# EAGLE library part QSE-060-01 (library con-samtec-qxe)
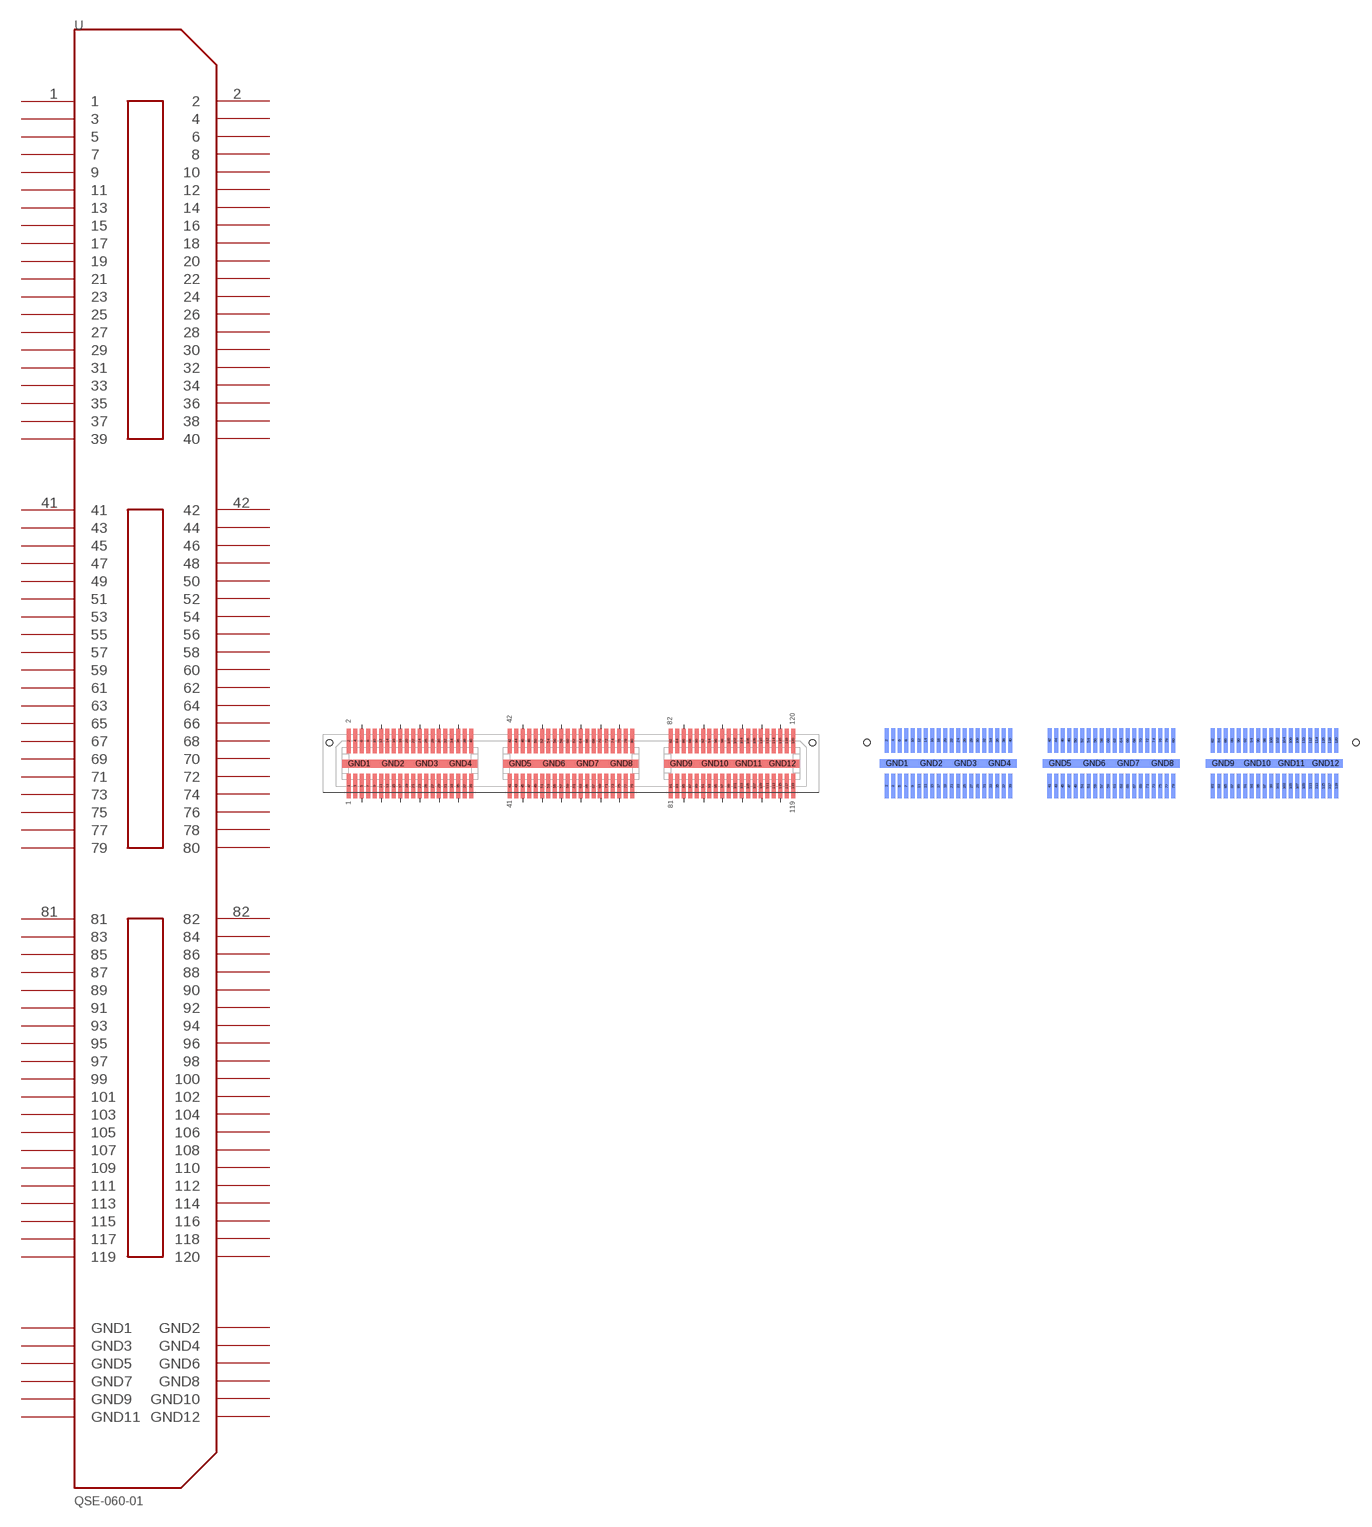
[diagram p1: symbol with the pads of QSE-060-01; footprints QSE-060-01, QSE-060-01-BOTTOM]

Designator prefix -

## QSE-060-01  [QSE-060-01]
1  1
2  2
3  3
4  4
5  5
6  6
7  7
8  8
9  9
10  10
11  11
12  12
13  13
14  14
15  15
16  16
17  17
18  18
19  19
20  20
21  21
22  22
23  23
24  24
25  25
26  26
27  27
28  28
29  29
30  30
31  31
32  32
33  33
34  34
35  35
36  36
37  37
38  38
39  39
40  40
41  41
42  42
43  43
44  44
45  45
46  46
47  47
48  48
49  49
50  50
51  51
52  52
53  53
54  54
55  55
56  56
57  57
58  58
59  59
60  60
61  61
62  62
63  63
64  64
65  65
66  66
67  67
68  68
69  69
70  70
71  71
72  72
73  73
74  74
75  75
76  76
77  77
78  78
79  79
80  80
81  81
82  82
83  83
84  84
85  85
86  86
87  87
88  88
89  89
90  90
91  91
92  92
93  93
94  94
95  95
96  96
97  97
98  98
99  99
100  100
101  101
102  102
103  103
104  104
105  105
106  106
107  107
108  108
109  109
110  110
111  111
112  112
113  113
114  114
115  115
116  116
117  117
118  118
119  119
120  120
GND1  GND1
GND2  GND2
GND3  GND3
GND4  GND4
GND5  GND5
GND6  GND6
GND7  GND7
GND8  GND8
GND9  GND9
GND10  GND10
GND11  GND11
GND12  GND12

## QSE-060-01QSE-060-01-BOTTOMSMD  [QSE-060-01-BOTTOM]
Pads as for QSE-060-01

## Footprint QSE-060-01 (pad centres in mm)
Samtec QSE-060 "female" SMD connector.
smd 0.5 x 3: 1 0.019,0; 2 0.019,5.601; 3 0.819,0; 4 0.819,5.601; 5 1.619,0; 6 1.619,5.601; 7 2.419,0; 8 2.419,5.601; 9 3.22,0; 10 3.22,5.601; 11 4.02,0; 12 4.02,5.601; 13 4.82,0; 14 4.82,5.601; 15 5.62,0; 16 5.62,5.601; 17 6.42,0; 18 6.42,5.601; 19 7.22,0; 20 7.22,5.601; 21 8.02,0; 22 8.02,5.601; 23 8.82,0; 24 8.82,5.601; 25 9.62,0; 26 9.62,5.601; 27 10.42,0; 28 10.42,5.601; 29 11.22,0; 30 11.22,5.601; 31 12.021,0; 32 12.021,5.601; 33 12.821,0; 34 12.821,5.601; 35 13.621,0; 36 13.621,5.601; 37 14.421,0; 38 14.421,5.601; 39 15.221,0; 40 15.221,5.601; 41 20.022,0; 42 20.022,5.601; 43 20.822,0; 44 20.822,5.601; 45 21.622,0; 46 21.622,5.601; 47 22.422,0; 48 22.422,5.601; 49 23.222,0; 50 23.222,5.601; 51 24.022,0; 52 24.022,5.601; 53 24.822,0; 54 24.822,5.601; 55 25.622,0; 56 25.622,5.601; 57 26.422,0; 58 26.422,5.601; 59 27.223,0; 60 27.223,5.601; 61 28.023,0; 62 28.023,5.601; 63 28.823,0; 64 28.823,5.601; 65 29.623,0; 66 29.623,5.601; 67 30.423,0; 68 30.423,5.601; 69 31.223,0; 70 31.223,5.601; 71 32.023,0; 72 32.023,5.601; 73 32.823,0; 74 32.823,5.601; 75 33.623,0; 76 33.623,5.601; 77 34.423,0; 78 34.423,5.601; 79 35.224,0; 80 35.224,5.601; 81 40.024,0; 82 40.024,5.601; 83 40.824,0; 84 40.824,5.601; 85 41.624,0; 86 41.624,5.601; 87 42.424,0; 88 42.424,5.601; 89 43.224,0; 90 43.224,5.601; 91 44.025,0; 92 44.025,5.601; 93 44.825,0; 94 44.825,5.601; 95 45.625,0; 96 45.625,5.601; 97 46.425,0; 98 46.425,5.601; 99 47.225,0; 100 47.225,5.601; 101 48.025,0; 102 48.025,5.601; 103 48.825,0; 104 48.825,5.601; 105 49.625,0; 106 49.625,5.601; 107 50.425,0; 108 50.425,5.601; 109 51.225,0; 110 51.225,5.601; 111 52.026,0; 112 52.026,5.601; 113 52.826,0; 114 52.826,5.601; 115 53.626,0; 116 53.626,5.601; 117 54.426,0; 118 54.426,5.601; 119 55.226,0; 120 55.226,5.601
smd 4.21 x 1.016: GND1 1.315,2.781; GND2 5.505,2.781; GND3 9.697,2.781; GND4 13.887,2.781; GND5 21.317,2.781; GND6 25.508,2.781; GND7 29.699,2.781; GND8 33.89,2.781; GND9 41.319,2.781; GND10 45.511,2.781; GND11 49.702,2.781; GND12 53.892,2.781
hole 0.8 at -2.381,5.372
hole 0.8 at 57.626,5.372

## Footprint QSE-060-01-BOTTOM (pad centres in mm)
smd 0.5 x 3 bottom: 1 2.407,3.2; 2 2.407,8.801; 3 3.207,3.2; 4 3.207,8.801; 5 4.007,3.2; 6 4.007,8.801; 7 4.807,3.2; 8 4.807,8.801; 9 5.607,3.2; 10 5.607,8.801; 11 6.407,3.2; 12 6.407,8.801; 13 7.207,3.2; 14 7.207,8.801; 15 8.007,3.2; 16 8.007,8.801; 17 8.807,3.2; 18 8.807,8.801; 19 9.608,3.2; 20 9.608,8.801; 21 10.408,3.2; 22 10.408,8.801; 23 11.208,3.2; 24 11.208,8.801; 25 12.008,3.2; 26 12.008,8.801; 27 12.808,3.2; 28 12.808,8.801; 29 13.608,3.2; 30 13.608,8.801; 31 14.408,3.2; 32 14.408,8.801; 33 15.208,3.2; 34 15.208,8.801; 35 16.008,3.2; 36 16.008,8.801; 37 16.808,3.2; 38 16.808,8.801; 39 17.609,3.2; 40 17.609,8.801; 41 22.403,3.2; 42 22.409,8.801; 43 23.209,3.2; 44 23.209,8.801; 45 24.009,3.2; 46 24.009,8.801; 47 24.809,3.2; 48 24.809,8.801; 49 25.61,3.2; 50 25.61,8.801; 51 26.41,3.2; 52 26.41,8.801; 53 27.21,3.2; 54 27.21,8.801; 55 28.01,3.2; 56 28.01,8.801; 57 28.81,3.2; 58 28.81,8.801; 59 29.61,3.2; 60 29.61,8.801; 61 30.41,3.2; 62 30.41,8.801; 63 31.21,3.2; 64 31.21,8.801; 65 32.01,3.2; 66 32.01,8.801; 67 32.81,3.2; 68 32.81,8.801; 69 33.611,3.2; 70 33.611,8.801; 71 34.411,3.2; 72 34.411,8.801; 73 35.211,3.2; 74 35.211,8.801; 75 36.011,3.2; 76 36.011,8.801; 77 36.811,3.2; 78 36.811,8.801; 79 37.611,3.2; 80 37.611,8.801; 81 42.412,3.2; 82 42.412,8.801; 83 43.212,3.2; 84 43.212,8.801; 85 44.012,3.2; 86 44.012,8.801; 87 44.812,3.2; 88 44.812,8.801; 89 45.612,3.2; 90 45.612,8.801; 91 46.412,3.2; 92 46.412,8.801; 93 47.212,3.2; 94 47.212,8.801; 95 48.012,3.2; 96 48.012,8.801; 97 48.812,3.2; 98 48.812,8.801; 99 49.613,3.2; 100 49.613,8.801; 101 50.413,3.2; 102 50.413,8.801; 103 51.213,3.2; 104 51.213,8.801; 105 52.013,3.2; 106 52.013,8.801; 107 52.813,3.2; 108 52.813,8.801; 109 53.613,3.2; 110 53.613,8.801; 111 54.413,3.2; 112 54.413,8.801; 113 55.213,3.2; 114 55.213,8.801; 115 56.013,3.2; 116 56.013,8.801; 117 56.813,3.2; 118 56.813,8.801; 119 57.614,3.2; 120 57.614,8.801
smd 4.21 x 1.016 bottom: GND1 3.702,5.982; GND2 7.893,5.982; GND3 12.084,5.982; GND4 16.275,5.982; GND5 23.705,5.982; GND6 27.896,5.982; GND7 32.087,5.982; GND8 36.278,5.982; GND9 43.707,5.982; GND10 47.898,5.982; GND11 52.089,5.982; GND12 56.28,5.982
hole 0.8 at 0.006,8.572
hole 0.8 at 60.014,8.572